# Altium footprint library DPAK.PcbLib: 1 footprints
Each footprint in its own frame and in the unit in brackets; x right, y up, seen from the top. Pads: shape width x height; smd on the part's side, far side on the other; paste and mask are expansions set on the pad; w line width, h text height; cw(c..) or ccw(c..) is an arc to the next point about the centre after c.
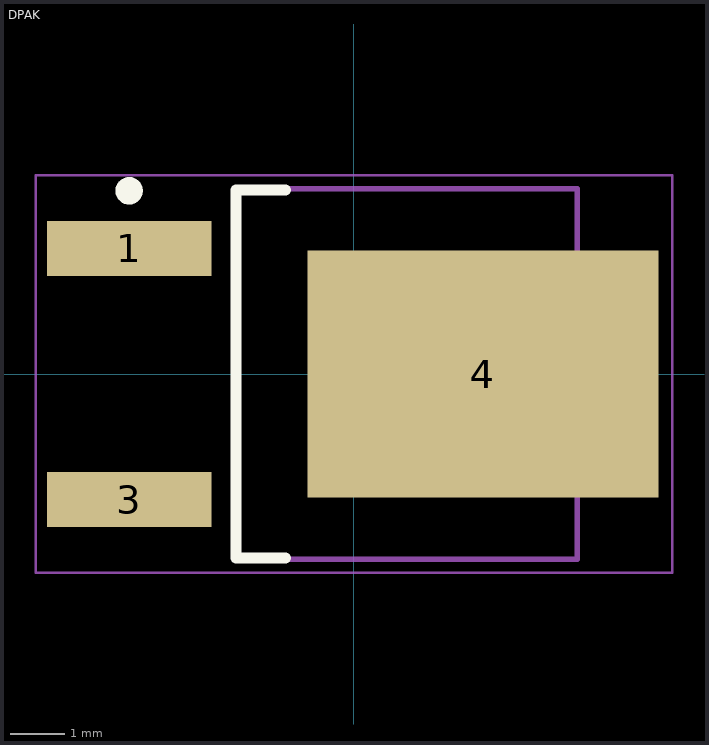
[diagram p0: the footprint, top view; thin cyan lines are the x and y axes]

## DPAK [mm] "D-PAK, 3-Pads, Body 6,21x6,73mm (max), IPC Medium Density"
height 2.39
pads (3):
  rect 3x1 smd: 1(-4.1,2.29) 3(-4.1,-2.29)
  rect 6.4x4.5 smd: 4(2.35,0)
Top Overlay:
  circle w0.25: c-4.1,3.34 r0.125
  lines w0.2: -1.25,-3.35 -2.15,-3.35 -2.15,3.35 -1.25,3.35
Mechanical 13:
  lines w0.1: -2.15,-3.375 4.07,-3.375 4.07,3.375 -2.15,3.375 -2.15,-3.375
Mechanical 15:
  lines w0.05: -5.8,-3.625 5.8,-3.625 5.8,3.625 -5.8,3.625 -5.8,-3.625
  lines w0.1: -0.5,0 0.5,0 ; 0,-0.5 0,0.5
3D body "DPAK.step": height 2.44, standoff 0, extent -4.39,-3.375 5.515,3.375